# Altium schematic symbol library M3.SchLib: 28 symbols
Pins are listed as number, name and electrical type; pins without a type are passive.

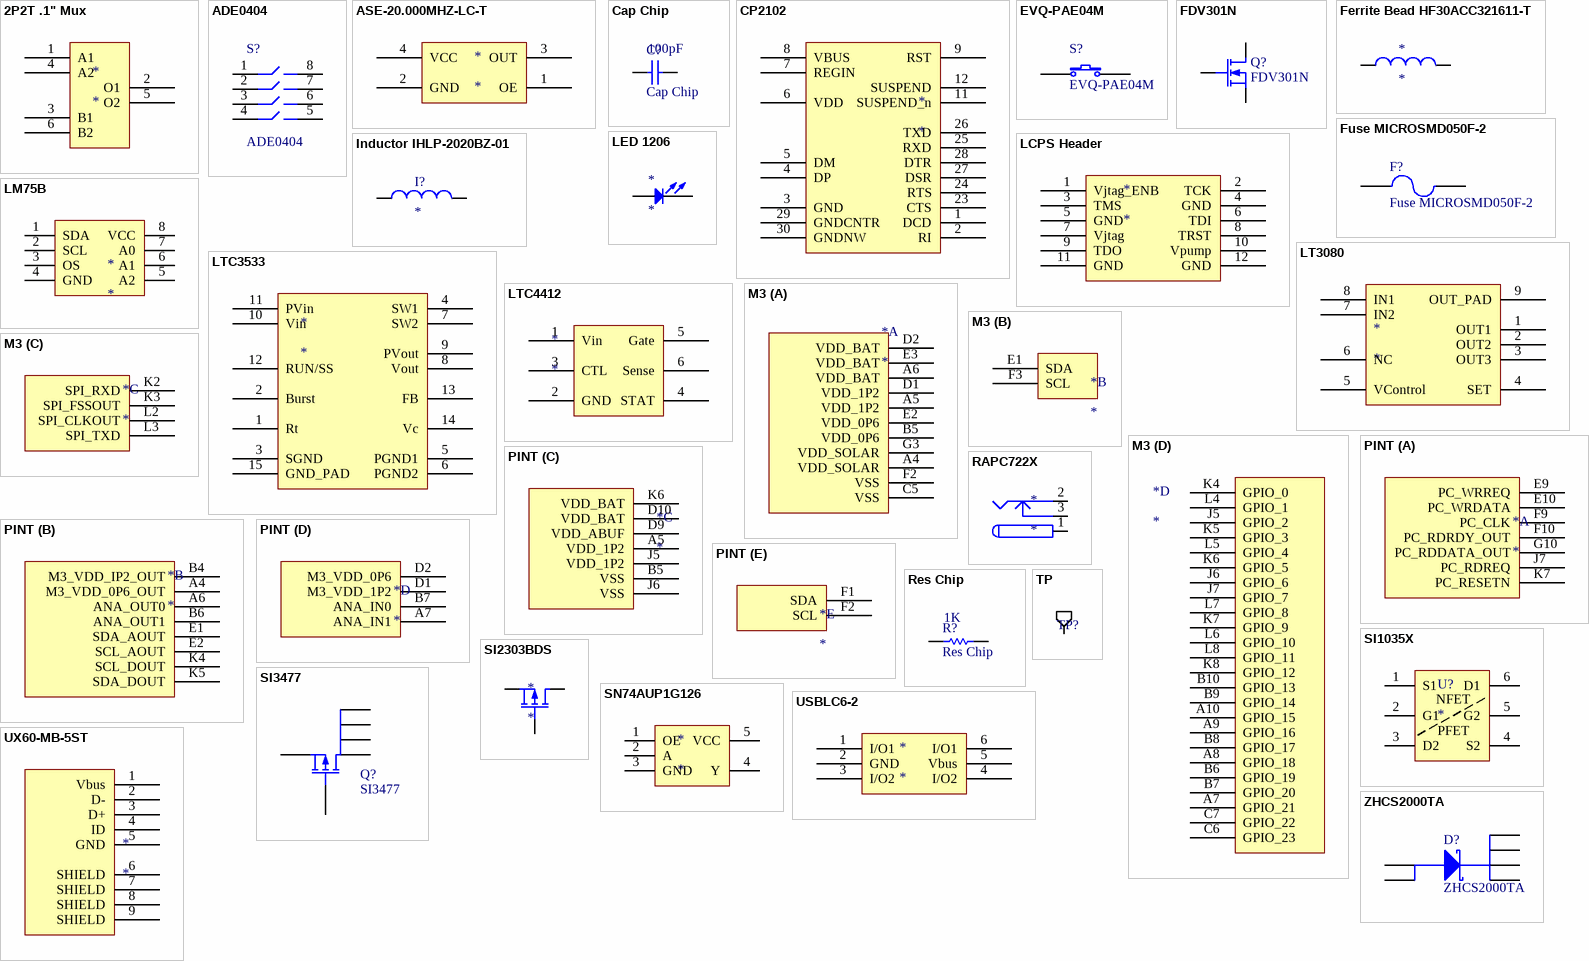
[diagram p0: symbols 2P2T .1" Mux to ZHCS2000TA]

## 2P2T .1" Mux
designator *
footprint HDR3x2
pins: 1 A1, 2 O1, 3 B1, 4 A2, 5 O2, 6 B2

## ADE0404
designator S?
4-DIP Switch; DistPartNo: 450-1364-ND; PackageReference: DIP-8; ManPartNo: ADE0404
footprint DIP-8 (DIP; 8 Leads; Row Spacing 7.62 mm; Pitch 2.54 mm)
simulation model dpsw4 (Spice Subcircuit)
pins: 1, 2, 3, 4, 5, 6, 7, 8

## ASE-20.000MHZ-LC-T
designator *
DistPartNo: 535-9565-1-ND; ManPartNo: ASE-20.000MHZ-LC-T
footprint CRYSTAL_3.2mm_2.5mm
pins: 1 OE, 2 GND, 3 OUT, 4 VCC

## Cap Chip
designator C?  value 100pF
Capacitor (Semiconductor SIM Model); Published: 8-Jun-2000; LatestRevisionDate: 29-May-2009; LatestRevisionNote: IPC-7351 Footprint Added.; PackageReference: C1206; Publisher: Altium Limited; PackageDescription: Chip Capacitor
footprint 0603 (Chip Capacitor, Body 1.6x0.8mm, IPC High Density)
footprint 0805 (Chip Resistor, Body 2.0x1.2mm, IPC High Density)
pins: 1, 2

## CP2102
designator *
DistPartNo: 336-1160-5-ND; ManPartNo: CP2102-GM
footprint QFN-28
pins: 1 DCD, 2 RI, 3 GND, 4 DP, 5 DM, 6 VDD, 7 REGIN, 8 VBUS, 9 RST, 11 SUSPEND_n, 12 SUSPEND, 23 CTS, 24 RTS, 25 RXD, 26 TXD, 27 DSR, 28 DTR, 29 GNDCNTR, 30 GNDNW

## EVQ-PAE04M
designator S?
Switch Push; DistPartNo: P8008S-ND; ManPartNo: EVQ-PAE04M
footprint EVQPA
pins: 1, 2

## FDV301N
designator Q?
N-Channel MOSFET; DistPartNo: FDV301NCT-ND; ManPartNo: FDV301N
footprint SOT-23_N (SOT23, 3-Leads, Body 2.9x1.3mm, Pitch 0.95mm, Lead Span 2.5mm, IPC Medium Density)
pins: 1 G, 2 S, 3 D

## Ferrite Bead HF30ACC321611-T
designator *
DistPartNo: 445-6165-1-ND; ManPartNo: HF30ACC321611-T
footprint Ferrite_Bead_3.2mm_1.6mm
pins: 1, 2

## Fuse MICROSMD050F-2
designator F?
POLYSWITCH 0.50A RESET FUSE SMD; DistPartNo: MICROSMD050FCT-ND; ManPartNo: MICROSMD050F-2
footprint 1210 (Chip Resistor, Body 3.2x2.5mm, IPC High Density)
pins: 1, 2

## Inductor IHLP-2020BZ-01
designator I?
IHLP2020BZER2R2M01; DistPartNo: 541-1088-1-ND; ManPartNo: IHLP2020BZER2R2M01
footprint INDUCTOR_5.49mm_5.18mm
pins: 1, 2

## LCPS Header
designator *
68021-212HLF
footprint HDR2X6H (Connector; Header; 6x2 Position; Right Angle)
pins: 1 Vjtag_ENB, 2 TCK, 3 TMS, 4 GND, 5 GND, 6 TDI, 7 Vjtag, 8 TRST, 9 TDO, 10 Vpump, 11 GND, 12 GND

## LED 1206
designator *
DistPartNo: 160-1169-1-ND; ManPartNo: LTST-C150GKT
footprint 1206_LED (Chip Capacitor, Body 3.2x1.6mm, IPC High Density)
pins: 1 A, 2 K

## LM75B
designator *
I2C Temp Sensor; DistPartNo: 568-4688-1-ND; ManPartNo: LM75BD,118
footprint SO8 (SOIC, 8-Leads, Body 4.9x3.9mm, Pitch 1.27mm, IPC Medium Density)
pins: 1 SDA, 2 SCL, 3 OS, 4 GND, 5 A2, 6 A1, 7 A0, 8 VCC

## LT3080
designator *
DistPartNo: LT3080EMS8E#TRPBFCT-ND; ManPartNo: LT3080EMS8E#TRPBF
footprint MSOP-8
pins: 1 OUT1, 2 OUT2, 3 OUT3, 4 SET, 5 VControl, 6 NC, 7 IN2, 8 IN1, 9 OUT_PAD

## LTC3533
designator *
DistPartNo: LTC3533EDE#PBF-ND; ManPartNo: LTC3533EDE#PBF
footprint 14-WFDFN
pins: 1 Rt, 2 Burst, 3 SGND, 4 SW1, 5 PGND1, 6 PGND2, 7 SW2, 8 Vout, 9 PVout, 10 Vin, 11 PVin, 12 RUN/SS, 13 FB, 14 Vc, 15 GND_PAD

## LTC4412
designator *
DistPartNo: LTC4412ES6#TRMPBFCT-ND; ManPartNo: LTC4412ES6#TRMPBF
footprint SOT23-6_L (SOT23, 6-Leads, Body 2.9x1.6mm, Pitch 0.95mm, Lead Span 2.7mm, IPC High Density)
pins: 1 Vin, 2 GND, 3 CTL, 4 STAT, 5 Gate, 6 Sense

## M3
designator *
DistPartNo: 3M5067-ND; ManPartNo: 200-6311-9UN-1900
footprint CPGA-84
part A pins: A4 VDD_SOLAR, A5 VDD_1P2, A6 VDD_BAT, B5 VDD_0P6, C5 VSS, D1 VDD_1P2, D2 VDD_BAT, E2 VDD_0P6, E3 VDD_BAT, F2 VSS, G3 VDD_SOLAR
part B pins: E1 SDA, F3 SCL
part C pins: K2 SPI_RXD, K3 SPI_FSSOUT, L2 SPI_CLKOUT, L3 SPI_TXD
part D pins: A7 GPIO_21, A8 GPIO_18, A9 GPIO_16, A10 GPIO_15, B6 GPIO_19, B7 GPIO_20, B8 GPIO_17, B9 GPIO_14, B10 GPIO_13, C6 GPIO_23, C7 GPIO_22, J5 GPIO_2, J6 GPIO_6, J7 GPIO_7, K4 GPIO_0, K5 GPIO_3, K6 GPIO_5, K7 GPIO_9, K8 GPIO_12, L4 GPIO_1, L5 GPIO_4, L6 GPIO_10, L7 GPIO_8, L8 GPIO_11

## PINT
designator *
DistPartNo: 3M5066-ND; ManPartNo: 200-6310-9UN-1900
footprint CPGA-65
part A pins: E9 PC_WRREQ, E10 PC_WRDATA, F9 PC_CLK, F10 PC_RDRDY_OUT, G10 PC_RDDATA_OUT, J7 PC_RDREQ, K7 PC_RESETN
part B pins: A4 M3_VDD_0P6_OUT, A6 ANA_OUT0, B4 M3_VDD_IP2_OUT, B6 ANA_OUT1, E1 SDA_AOUT, E2 SCL_AOUT, K4 SCL_DOUT, K5 SDA_DOUT
part C pins: A5 VDD_1P2, B5 VSS, D9 VDD_ABUF, D10 VDD_BAT, J5 VDD_1P2, J6 VSS, K6 VDD_BAT
part D pins: A7 ANA_IN1, B7 ANA_IN0, D1 M3_VDD_1P2, D2 M3_VDD_0P6
part E pins: F1 SDA, F2 SCL

## RAPC722X
designator *
CONN POWERJACK MINI R/A T/H; DistPartNo: SC1313-ND; ManPartNo: RAPC722X
footprint RAPC722X (CONN POWERJACK MINI R/A T/H)
pins: 1 (power), 2 (power), 3 (power)

## Res Chip
designator R?  value 1K
Semiconductor Resistor; Published: 8-Jun-2000; LatestRevisionDate: 17-Jul-2002; LatestRevisionNote: Re-released for DXP Platform.; PackageReference: AXIAL-0.5; Publisher: Altium Limited; PackageDescription: Axial Device, Thru-Hole; 2 Leads; 0.5 in Pin Spacing
footprint AXIAL-0.5 (Axial Device, Thru-Hole; 2 Leads; 0.5 in Pin Spacing)
footprint 0603 (Chip Capacitor, Body 1.6x0.8mm, IPC High Density)
footprint 0805 (Chip Resistor, Body 2.0x1.2mm, IPC High Density)
footprint 1210 (Chip Resistor, Body 3.2x2.5mm, IPC High Density)
pins: 1, 2

## SI1035X
designator U?
Complementary N- and P-Channel 20 V (D-S) MOSFET; DistPartNo: SI1035X-T1-GE3CT-ND; ManPartNo: SI1035X-T1-GE3
footprint SC-89-6
pins: 1 S1, 2 G1, 3 D2, 4 S2, 5 G2, 6 D1
text: NFET; PFET

## SI2303BDS
designator *
P-Channel MOSFET; DistPartNo: SI2303BDS-T1-E3CT-ND; ManPartNo: SI2303BDS-T1-E3
footprint SOT-23_N (SOT23, 3-Leads, Body 2.9x1.3mm, Pitch 0.95mm, Lead Span 2.5mm, IPC Medium Density)
pins: 1 G, 2 S, 3 D

## SI3477
designator Q?
P-Channel MOSFET; DistPartNo: SI3477DV-T1-GE3CT-ND; ManPartNo: SI3477DV-T1-GE3
footprint TSOP-6
pins: 1 D, 2 D, 3 G, 4 S, 5 D, 6 D

## SN74AUP1G126
designator *
LOW-POWER SINGLE BUS BUFFER GATE WITH 3-STATE OUTPUT; DistPartNo: 296-18005-1-ND; ManPartNo: SN74AUP1G126DBVR
footprint SOT-753
pins: 1 OE, 2 A, 3 GND, 4 Y, 5 VCC

## TP
designator TP?  (value not drawn)
footprint TP
pins: 1 A

## USBLC6-2
designator *
USB ESD Protection; DistPartNo: 497-11882-1-ND; ManPartNo: USBLC6-2SC6Y
footprint SOT23-6_L (SOT23, 6-Leads, Body 2.9x1.6mm, Pitch 0.95mm, Lead Span 2.7mm, IPC High Density)
pins: 1 I/O1, 2 GND, 3 I/O2, 4 I/O2, 5 Vbus, 6 I/O1

## UX60-MB-5ST
designator *
USB mini-B; DistPartNo: H2959CT-ND; ManPartNo: UX60-MB-5ST
footprint USB Mini-B
pins: 1 Vbus, 2 D-, 3 D+, 4 ID, 5 GND, 6 SHIELD, 7 SHIELD, 8 SHIELD, 9 SHIELD

## ZHCS2000TA
designator D?
Schottky Diode; DistPartNo: ZHCS2000CT-ND; ManPartNo: ZHCS2000TA
footprint SOT23-6_L (SOT23, 6-Leads, Body 2.9x1.6mm, Pitch 0.95mm, Lead Span 2.7mm, IPC High Density)
pins: 1 K, 2 K, 3 A, 4 A, 5 K, 6 K